# Altium schematic symbol library AT90CAN128.SchLib: 1 symbol
Pins are listed as number, name and electrical type; pins without a type are passive.

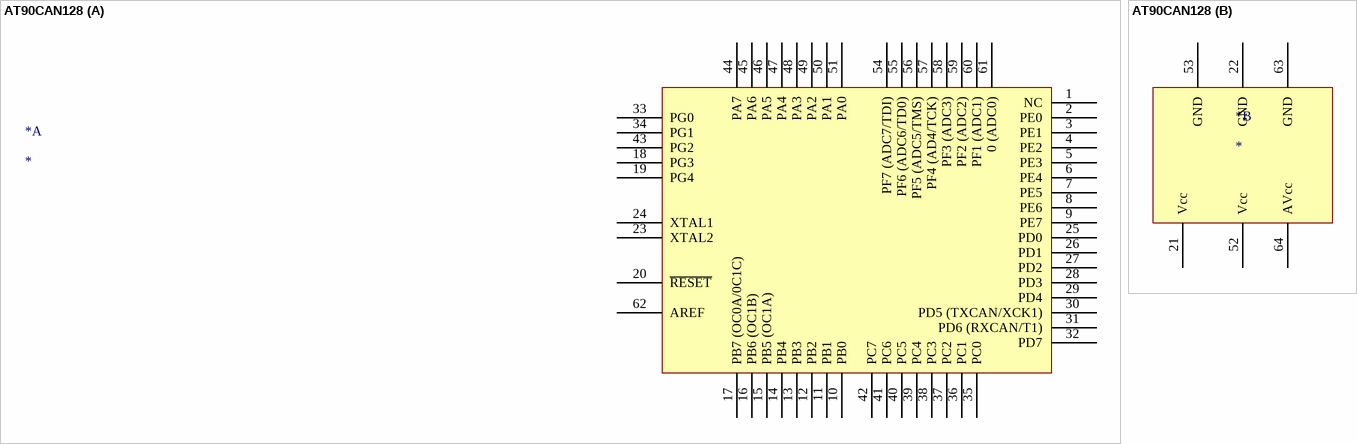
[diagram p0: symbol AT90CAN128]

## AT90CAN128
designator *
footprint TQFP80P1600X1600X120-64N (TQFP, 64-Leads, Body 16.0x16.0mm (max), Pitch 0.80mm, IPC Medium Density)
part A pins: 1 NC, 2 PE0, 3 PE1, 4 PE2, 5 PE3, 6 PE4, 7 PE5, 8 PE6, 9 PE7, 10 PB0, 11 PB1, 12 PB2, 13 PB3, 14 PB4, 15 PB5 (OC1A), 16 PB6 (OC1B), 17 PB7 (OC0A/0C1C), 18 PG3, 19 PG4, 20 ~{RESET}, 23 XTAL2, 24 XTAL1, 25 PD0, 26 PD1, 27 PD2, 28 PD3, 29 PD4, 30 PD5 (TXCAN/XCK1), 31 PD6 (RXCAN/T1), 32 PD7, 33 PG0, 34 PG1, 35 PC0, 36 PC1, 37 PC2, 38 PC3, 39 PC4, 40 PC5, 41 PC6, 42 PC7, 43 PG2, 44 PA7, 45 PA6, 46 PA5, 47 PA4, 48 PA3, 49 PA2, 50 PA1, 51 PA0, 54 PF7 (ADC7/TDI), 55 PF6 (ADC6/TD0), 56 PF5 (ADC5/TMS), 57 PF4 (AD4/TCK), 58 PF3 (ADC3), 59 PF2 (ADC2), 60 PF1 (ADC1), 61 0 (ADC0), 62 AREF
part B pins: 21 Vcc, 22 GND, 52 Vcc, 53 GND, 63 GND, 64 AVcc